# Altium schematic symbol library TC33.SchLib: 1 symbol
Pins are listed as number, name and electrical type; pins without a type are passive.

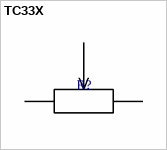
[diagram p0: symbol TC33X]

## TC33X
designator R?
pins: 1, 2, 3